# Altium footprint library SparkFun-RF.PCBLIB: 42 footprints (part 3 of 3)
Each footprint in its own frame and in the unit in brackets; x right, y up, seen from the top. Pads: shape width x height; smd on the part's side, far side on the other; paste and mask are expansions set on the pad; w line width, h text height; cw(c..) or ccw(c..) is an arc to the next point about the centre after c.
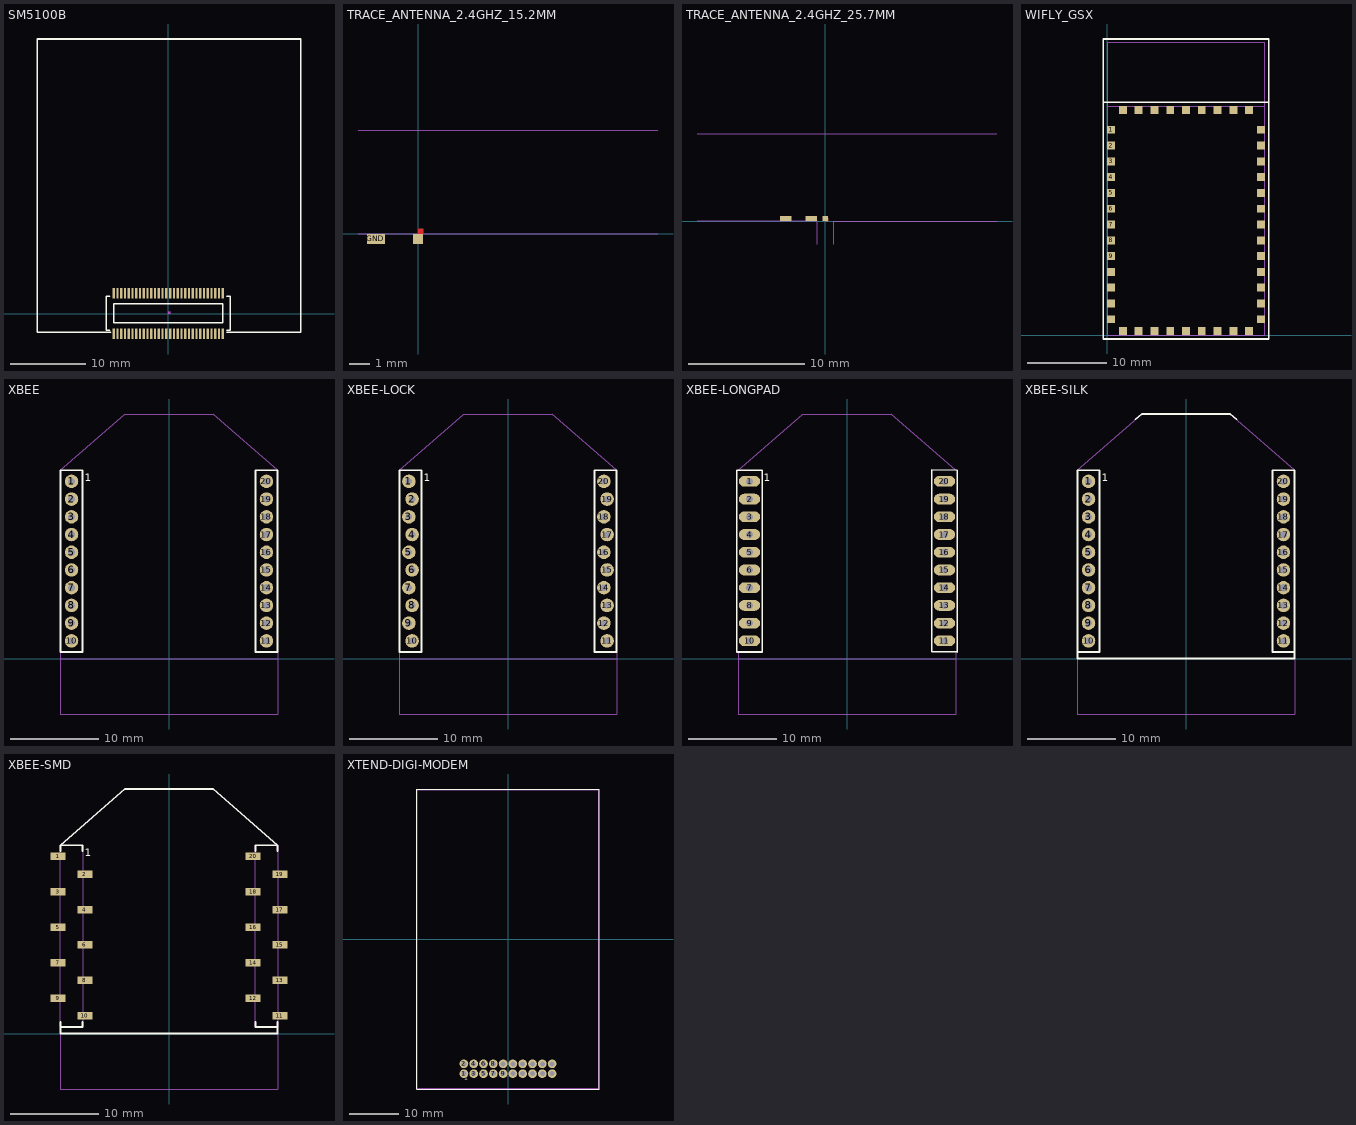
[diagram p2: the footprints below, top view; thin cyan lines are the x and y axes]

## SM5100B [mm]
pads (60):
  rect 0.3x1.4 smd: 1(7.25,-2.68) 2(7.25,2.68) 3(6.75,-2.68) 4(6.75,2.68) 5(6.25,-2.68) 6(6.25,2.68) 7(5.75,-2.68) 8(5.75,2.68) 9(5.25,-2.68) 10(5.25,2.68) 11(4.75,-2.68) 12(4.75,2.68) 13(4.25,-2.68) 14(4.25,2.68) 15(3.75,-2.68) 16(3.75,2.68) 17(3.25,-2.68) 18(3.25,2.68) 19(2.75,-2.68) 20(2.75,2.68) 21(2.25,-2.68) 22(2.25,2.68) 23(1.75,-2.68) 24(1.75,2.68) 25(1.25,-2.68) 26(1.25,2.68) 27(0.75,-2.68) 28(0.75,2.68) 29(0.25,-2.68) 30(0.25,2.68) 31(-0.25,-2.68) 32(-0.25,2.68) 33(-0.75,-2.68) 34(-0.75,2.68) 35(-1.25,-2.68) 36(-1.25,2.68) 37(-1.75,-2.68) 38(-1.75,2.68) 39(-2.25,-2.68) 40(-2.25,2.68) 41(-2.75,-2.68) 42(-2.75,2.68) 43(-3.25,-2.68) 44(-3.25,2.68) 45(-3.75,-2.68) 46(-3.75,2.68) 47(-4.25,-2.68) 48(-4.25,2.68) 49(-4.75,-2.68) 50(-4.75,2.68) 51(-5.25,-2.68) 52(-5.25,2.68) 53(-5.75,-2.68) 54(-5.75,2.68) 55(-6.25,-2.68) 56(-6.25,2.68) 57(-6.75,-2.68) 58(-6.75,2.68) 59(-7.25,-2.68) 60(-7.25,2.68)
Top Layer keep-out:
  region: 0,0 0.254,0 0.254,0.254 0,0.254
  region: 0,0 0.254,0 0.254,0.254 0,0.254
  region: 0,0 0.254,0 0.254,0.254 0,0.254
  region: 0,0 0.254,0 0.254,0.254 0,0.254
Top Overlay:
  lines w0.203: -7.75,-2.2 -8.25,-2.2 -8.25,2.3 -7.75,2.3 ; -7.673,-2.5 -17.4,-2.5 -17.4,36.5 17.6,36.5 17.6,-2.5 7.746,-2.5 ; 7.75,-2.2 8.25,-2.2 8.25,2.3 7.75,2.3 ; -7.25,-1.2 7.25,-1.2 7.25,1.3 -7.25,1.3 -7.25,-1.2
Top Paste:
  region: 7.375,-2.03 7.125,-2.03 7.125,-3.23 7.375,-3.23
  region: 6.875,-2.03 6.625,-2.03 6.625,-3.23 6.875,-3.23
  region: 6.375,-2.03 6.125,-2.03 6.125,-3.23 6.375,-3.23
  region: 5.875,-2.03 5.625,-2.03 5.625,-3.23 5.875,-3.23
  region: 5.375,-2.03 5.125,-2.03 5.125,-3.23 5.375,-3.23
  region: 4.875,-2.03 4.625,-2.03 4.625,-3.23 4.875,-3.23
  region: 4.375,-2.03 4.125,-2.03 4.125,-3.23 4.375,-3.23
  region: 3.875,-2.03 3.625,-2.03 3.625,-3.23 3.875,-3.23
  region: 3.375,-2.03 3.125,-2.03 3.125,-3.23 3.375,-3.23
  region: 2.875,-2.03 2.625,-2.03 2.625,-3.23 2.875,-3.23
  region: 2.375,-2.03 2.125,-2.03 2.125,-3.23 2.375,-3.23
  region: 1.875,-2.03 1.625,-2.03 1.625,-3.23 1.875,-3.23
  region: 1.375,-2.03 1.125,-2.03 1.125,-3.23 1.375,-3.23
  region: 0.875,-2.03 0.625,-2.03 0.625,-3.23 0.875,-3.23
  region: 0.375,-2.03 0.125,-2.03 0.125,-3.23 0.375,-3.23
  region: -0.125,-2.03 -0.375,-2.03 -0.375,-3.23 -0.125,-3.23
  region: -1.125,-2.03 -1.375,-2.03 -1.375,-3.23 -1.125,-3.23
  region: -0.625,-2.03 -0.875,-2.03 -0.875,-3.23 -0.625,-3.23
  region: -1.625,-2.03 -1.875,-2.03 -1.875,-3.23 -1.625,-3.23
  region: -2.125,-2.03 -2.375,-2.03 -2.375,-3.23 -2.125,-3.23
  region: -2.625,-2.03 -2.875,-2.03 -2.875,-3.23 -2.625,-3.23
  region: -3.125,-2.03 -3.375,-2.03 -3.375,-3.23 -3.125,-3.23
  region: -3.625,-2.03 -3.875,-2.03 -3.875,-3.23 -3.625,-3.23
  region: -4.125,-2.03 -4.375,-2.03 -4.375,-3.23 -4.125,-3.23
  region: -4.625,-2.03 -4.875,-2.03 -4.875,-3.23 -4.625,-3.23
  region: -5.125,-2.03 -5.375,-2.03 -5.375,-3.23 -5.125,-3.23
  region: -5.625,-2.03 -5.875,-2.03 -5.875,-3.23 -5.625,-3.23
  region: -6.125,-2.03 -6.375,-2.03 -6.375,-3.23 -6.125,-3.23
  region: -6.625,-2.03 -6.875,-2.03 -6.875,-3.23 -6.625,-3.23
  region: -7.125,-2.03 -7.375,-2.03 -7.375,-3.23 -7.125,-3.23
  region: 7.375,3.23 7.125,3.23 7.125,2.03 7.375,2.03
  region: 6.875,3.23 6.625,3.23 6.625,2.03 6.875,2.03
  region: 6.375,3.23 6.125,3.23 6.125,2.03 6.375,2.03
  region: 5.875,3.23 5.625,3.23 5.625,2.03 5.875,2.03
  region: 5.375,3.23 5.125,3.23 5.125,2.03 5.375,2.03
  region: 4.875,3.23 4.625,3.23 4.625,2.03 4.875,2.03
  region: 4.375,3.23 4.125,3.23 4.125,2.03 4.375,2.03
  region: 3.875,3.23 3.625,3.23 3.625,2.03 3.875,2.03
  region: 3.375,3.23 3.125,3.23 3.125,2.03 3.375,2.03
  region: 2.875,3.23 2.625,3.23 2.625,2.03 2.875,2.03
  region: 2.375,3.23 2.125,3.23 2.125,2.03 2.375,2.03
  region: 1.875,3.23 1.625,3.23 1.625,2.03 1.875,2.03
  region: 1.375,3.23 1.125,3.23 1.125,2.03 1.375,2.03
  region: 0.875,3.23 0.625,3.23 0.625,2.03 0.875,2.03
  region: 0.375,3.23 0.125,3.23 0.125,2.03 0.375,2.03
  region: -0.125,3.23 -0.375,3.23 -0.375,2.03 -0.125,2.03
  region: -0.625,3.23 -0.875,3.23 -0.875,2.03 -0.625,2.03
  region: -1.125,3.23 -1.375,3.23 -1.375,2.03 -1.125,2.03
  region: -1.625,3.23 -1.875,3.23 -1.875,2.03 -1.625,2.03
  region: -2.125,3.23 -2.375,3.23 -2.375,2.03 -2.125,2.03
  region: -2.625,3.23 -2.875,3.23 -2.875,2.03 -2.625,2.03
  region: -3.125,3.23 -3.375,3.23 -3.375,2.03 -3.125,2.03
  region: -3.625,3.23 -3.875,3.23 -3.875,2.03 -3.625,2.03
  region: -4.125,3.23 -4.375,3.23 -4.375,2.03 -4.125,2.03
  region: -4.625,3.23 -4.875,3.23 -4.875,2.03 -4.625,2.03
  region: -5.125,3.23 -5.375,3.23 -5.375,2.03 -5.125,2.03
  region: -5.625,3.23 -5.875,3.23 -5.875,2.03 -5.625,2.03
  region: -6.125,3.23 -6.375,3.23 -6.375,2.03 -6.125,2.03
  region: -6.625,3.23 -6.875,3.23 -6.875,2.03 -6.625,2.03
  region: -7.125,3.23 -7.375,3.23 -7.375,2.03 -7.125,2.03
Mechanical 11:
  region: 0,0 0.254,0 0.254,0.254 0,0.254
  region: 0,0 0.254,0 0.254,0.254 0,0.254
  region: 0,0 0.254,0 0.254,0.254 0,0.254
  region: 0,0 0.254,0 0.254,0.254 0,0.254

## TRACE_ANTENNA_2.4GHZ_15.2MM [mm]
pads (2):
  rect 0.5x0.5 smd: ANT(0,-0.25)
  rect 0.9x0.5 smd: GND(-2.1,-0.25)
Top Layer:
  region: 0,0 0.254,0 0.254,0.254 0,0.254
Mechanical 16:
  lines w0.05: -3,0 12,0 ; -3,5.2 12,5.2
  text "Ground Plane" at 1,-0.8 h0.54
  text "Board Edge" at 1.5,5.5 h0.54

## TRACE_ANTENNA_2.4GHZ_25.7MM [mm]
pads (3):
  rect 0.46x0.46 smd: ANT(0,0.23)
  rect 1x0.46 smd: GND(-1.18,0.23) GND2(-3.38,0.23)
Top Layer:
  region: 0,0 0.254,0 0.254,0.254 0,0.254
Mechanical 16:
  lines w0.1: -11,0 -0.68,0 -0.68,-2 ; -11,7.52 14.75,7.52 ; 0.68,-2 0.68,0 14.75,0
  text "Ground Plane" at -11.049,-1.397 h0.76
  text "Ground Plane" at 2.921,-1.397 h0.76
  text "Board edge" at -4.449,7.703 h0.76

## WIFLY_GSX [mm]
pads (44):
  rect 1x1 smd: 1(0.5,26) 2(0.5,24) 3(0.5,22) 4(0.5,20) 5(0.5,18) 6(0.5,16) 7(0.5,14) 8(0.5,12) 9(0.5,10) 10(0.5,8) 11(0.5,6) 12(0.5,4) 13(0.5,2) 14(2,0.5) 15(4,0.5) 16(6,0.5) 17(8,0.5) 18(10,0.5) 19(12,0.5) 20(14,0.5) 21(16,0.5) 22(18,0.5) 23(19.5,2) 24(19.5,4) 25(19.5,6) 26(19.5,8) 27(19.5,10) 28(19.5,12) 29(19.5,14) 30(19.5,16) 31(19.5,18) 32(19.5,20) 33(19.5,22) 34(19.5,24) 35(19.5,26) 36(18,28.5) 37(16,28.5) 38(14,28.5) 39(12,28.5) 40(10,28.5) 41(8,28.5) 42(6,28.5) 43(4,28.5) 44(2,28.5)
Top Overlay:
  lines w0.203: -0.5,29.5 -0.5,-0.5 20.5,-0.5 20.5,29.5 ; -0.5,29.5 -0.5,37.5 20.5,37.5 20.5,29.5 ; -0.5,29.5 20.5,29.5
Mechanical 16:
  lines w0.127: 0,29 0,37 20,37 20,29 ; 0,29 0,0 20,0 20,29 ; 0,29 20,29

## XBEE [mil]
pads (20):
  round 60 hole 31.5: 1(-433.07,787.4) 2(-433.07,708.66) 3(-433.07,629.92) 4(-433.07,551.18) 5(-433.07,472.44) 6(-433.07,393.7) 7(-433.07,314.96) 8(-433.07,236.22) 9(-433.07,157.48) 10(-433.07,78.74) 11(433.07,78.74) 12(433.07,157.48) 13(433.07,236.22) 14(433.07,314.96) 15(433.07,393.7) 16(433.07,472.44) 17(433.07,551.18) 18(433.07,629.92) 19(433.07,708.66) 20(433.07,787.4)
Top Overlay:
  lines w8: -482.28,29.53 -482.28,836.61 -383.86,836.61 -383.86,29.53 -482.28,29.53 ; 383.86,29.53 482.28,29.53 482.28,836.61 383.86,836.61 383.86,29.53
  text "1" at -374.02,787.4 h34
Mechanical 16:
  lines w5: -482.28,29.53 -482.28,0 ; -482.28,836.61 -196.85,1086.61 196.85,1086.61 482.28,836.61 ; 482.28,29.53 482.28,0 ; -482.28,0 482.28,0 ; -482.28,0 -482.28,-246.06 482.28,-246.06 482.28,0

## XBEE-LOCK [mil]
pads (20):
  round 60 hole 29: 1(-440.07,787.4) 2(-426.07,708.66) 3(-440.07,629.92) 4(-426.07,551.18) 5(-440.07,472.44) 6(-426.07,393.7) 7(-440.07,314.96) 8(-426.07,236.22) 9(-440.07,157.48) 10(-426.07,78.74) 11(440.07,78.74) 12(426.07,157.48) 13(440.07,236.22) 14(426.07,314.96) 15(440.07,393.7) 16(426.07,472.44) 17(440.07,551.18) 18(426.07,629.92) 19(440.07,708.66) 20(426.07,787.4)
Top Overlay:
  lines w8: -482.28,29.53 -482.28,836.61 -383.86,836.61 -383.86,29.53 -482.28,29.53 ; 383.86,29.53 482.28,29.53 482.28,836.61 383.86,836.61 383.86,29.53
  text "1" at -374.02,787.4 h34
Mechanical 16:
  rectangle: -437,68 -429,88
  rectangle: -437,147 -429,167
  rectangle: -437,225 -429,245
  rectangle: -437,304 -429,324
  rectangle: -437,383 -429,403
  rectangle: -437,463 -429,483
  rectangle: -437,541 -429,561
  rectangle: -437,619 -429,639
  rectangle: -437,698 -429,718
  rectangle: -437,777 -429,797
  rectangle: 429,68 437,88
  rectangle: 429,147 437,167
  rectangle: 429,225 437,245
  rectangle: 429,304 437,324
  rectangle: 429,383 437,403
  rectangle: 429,463 437,483
  rectangle: 429,541 437,561
  rectangle: 429,619 437,639
  rectangle: 429,698 437,718
  rectangle: 429,777 437,797
  lines w5: -482.28,29.53 -482.28,0 ; -482.28,836.61 -196.85,1086.61 196.85,1086.61 482.28,836.61 ; 482.28,29.53 482.28,0 ; -482.28,0 482.28,0 ; -482.28,0 -482.28,-246.06 482.28,-246.06 482.28,0

## XBEE-LONGPAD [mil]
pads (20):
  oval 95x47.5 hole 31.5: 1(-433.07,787.4) 2(-433.07,708.66) 3(-433.07,629.92) 4(-433.07,551.18) 5(-433.07,472.44) 6(-433.07,393.7) 7(-433.07,314.96) 8(-433.07,236.22) 9(-433.07,157.48) 10(-433.07,78.74) 11(433.07,78.74) 12(433.07,157.48) 13(433.07,236.22) 14(433.07,314.96) 15(433.07,393.7) 16(433.07,472.44) 17(433.07,551.18) 18(433.07,629.92) 19(433.07,708.66) 20(433.07,787.4)
Top Overlay:
  lines w8: -489.78,29.53 -489.78,836.61 -376.36,836.61 -376.36,29.53 -489.78,29.53 ; 376.36,32.03 489.78,29.53 489.78,836.61 376.36,839.11 376.36,32.03
  text "1" at -369.02,787.4 h34
Mechanical 16:
  lines w5: -482.28,29.53 -482.28,0 ; -482.28,836.61 -196.85,1086.61 196.85,1086.61 482.28,836.61 ; 482.28,29.53 482.28,0 ; -482.28,0 482.28,0 ; -482.28,0 -482.28,-246.06 482.28,-246.06 482.28,0

## XBEE-SILK [mil]
pads (20):
  round 60 hole 31.5: 1(-433.07,787.4) 2(-433.07,708.66) 3(-433.07,629.92) 4(-433.07,551.18) 5(-433.07,472.44) 6(-433.07,393.7) 7(-433.07,314.96) 8(-433.07,236.22) 9(-433.07,157.48) 10(-433.07,78.74) 11(433.07,78.74) 12(433.07,157.48) 13(433.07,236.22) 14(433.07,314.96) 15(433.07,393.7) 16(433.07,472.44) 17(433.07,551.18) 18(433.07,629.92) 19(433.07,708.66) 20(433.07,787.4)
Top Overlay:
  lines w8: -224.41,1062.99 -196.85,1086.61 196.85,1086.61 224.41,1062.99 ; -482.28,29.53 -482.28,836.61 -383.86,836.61 -383.86,29.53 -482.28,29.53 ; -482.28,29.53 -482.28,0 482.28,0 482.28,29.53 ; 482.28,29.53 482.28,836.61 383.86,836.61 383.86,29.53 482.28,29.53
  text "1" at -374.02,787.4 h34
Mechanical 16:
  lines w5: -482.28,0 -482.28,-246.06 482.28,-246.06 482.28,0 ; -482.28,836.61 -196.85,1086.61 196.85,1086.61 482.28,836.61

## XBEE-SMD [mm]
pads (20):
  rect 1.7x0.85 smd: 1(-12.5,20) 2(-9.5,18) 3(-12.5,16) 4(-9.5,14) 5(-12.5,12) 6(-9.5,10) 7(-12.5,8) 8(-9.5,6) 9(-12.5,4) 10(-9.5,2) 11(12.5,2) 12(9.5,4) 13(12.5,6) 14(9.5,8) 15(12.5,10) 16(9.5,12) 17(12.5,14) 18(9.5,16) 19(12.5,18) 20(9.5,20)
Top Overlay:
  lines w0.203: -12.25,1.3 -12.25,0.75 ; -12.25,20.6 -12.25,21.25 ; -9.75,1.3 -9.75,0.75 -12.25,0.75 ; -9.75,20.6 -9.75,21.25 -12.25,21.25 ; 9.75,1.3 9.75,0.75 12.25,0.75 ; 9.75,20.6 9.75,21.25 12.25,21.25 ; 12.25,1.3 12.25,0.75 ; 12.25,20.6 12.25,21.25 ; -12.25,0.75 -12.25,0 12.25,0 12.25,0.75 ; -12.25,21.25 -5,27.6 5,27.6 12.25,21.25
  text "1" at -9.5,20 h0.86
Mechanical 16:
  lines w0.127: -12.25,0 -12.25,-6.25 12.25,-6.25 12.25,0 ; -12.25,0.75 -12.25,21.25 -9.75,21.25 -9.75,0.75 -12.25,0.75 ; 9.75,0.75 9.75,21.25 12.25,21.25 12.25,0.75 9.75,0.75

## XTEND-DIGI-MODEM [mil]
pads (20):
  round 70 hole 40: 1(-354.33,-1082.68) 2(-354.33,-1003.94) 3(-275.59,-1082.68) 4(-275.59,-1003.94) 5(-196.85,-1082.68) 6(-196.85,-1003.94) 7(-118.11,-1082.68) 8(-118.11,-1003.94) 9(-39.37,-1082.68) 10(-39.37,-1003.94) 11(39.37,-1082.68) 12(39.37,-1003.94) 13(118.11,-1082.68) 14(118.11,-1003.94) 15(196.85,-1082.68) 16(196.85,-1003.94) 17(275.59,-1082.68) 18(275.59,-1003.94) 19(354.33,-1082.68) 20(354.33,-1003.94)
Top Overlay:
  lines w8: -733.35,-1205.79 -733.35,1205.79 733.35,1205.79 733.35,-1205.79 -733.35,-1205.79
  text "1" at -350.39,-1129.92 h34
Mechanical 16:
  lines w5: -728.35,-1200.79 -728.35,1200.79 728.35,1200.79 728.35,-1200.79 -728.35,-1200.79